# Altium schematic symbol library SensorsG.SchLib: 3 symbols
Pins are listed as number, name and electrical type; pins without a type are passive.

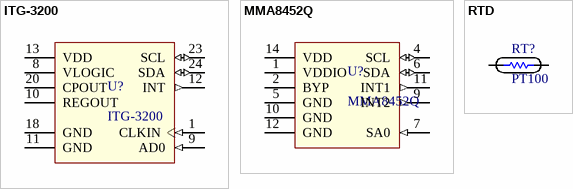
[diagram p0: symbols ITG-3200 to RTD]

## ITG-3200
designator U?
3-axis digital MEMS gyroscope
pins: 1 CLKIN (in), 8 VLOGIC (power), 9 AD0 (in), 10 REGOUT, 11 GND (power), 12 INT (out), 13 VDD (power), 18 GND (power), 20 CPOUT (power), 23 SCL (io), 24 SDA (io)

## MMA8452Q
designator U?
3-Axis 12-Bit Digital Accelerometer
pins: 1 VDDIO (power), 2 BYP, 4 SCL (io), 5 GND (power), 6 SDA (io), 7 SA0 (in), 9 INT2 (out), 10 GND (power), 11 INT1 (out), 12 GND (power), 14 VDD (power)

## RTD
designator RT?, comment PT100
Resistive thermal device
pins: 1, 2